# EAGLE library part 691312510006 (library Terminal_Blocks_Connectors_rev15e)
WR-TBL Serie 312 - 5.08 mm Open Horizontal PCB Header , 6 Pins=>Code : Con_TBL_Pluggable_5.08_PCB_THT_Simple_H_691312510006 <http://katalog.we-online.de/media/images/eican/Con_TBL_Pluggable_5.08_PCB_THT_Simple_H_6913125100xx_pf2.jpg> Details see: http://katalog.we-online.de/en/em/691_312_510_0xx Created 2014-06-25, Karrer Zheng 2014 (C) Würth Elektronik
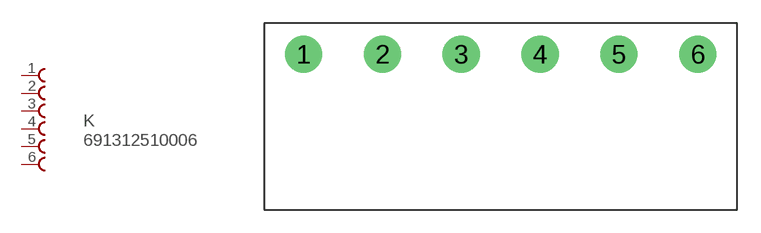
[diagram p131: symbol with the pads of 691312510006; footprint 691312510006]

Designator prefix K

## 691312510006  [691312510006]
1  1  pas
2  2  pas
3  3  pas
4  4  pas
5  5  pas
6  6  pas

## Footprint 691312510006 (pad centres in mm)
WR-TBL Serie 312 - 5.08 mm Open Horizontal PCB Header , 6 Pins
drill 1.6: 1 -10.16,0; 2 -5.08,0; 3 0,0; 4 5.08,0; 5 10.16,0; 6 15.24,0